# Altium footprint library RDEC71H226MWK1H03B.PcbLib: 1 footprints
Each footprint in its own frame and in the unit in brackets; x right, y up, seen from the top. Pads: shape width x height; smd on the part's side, far side on the other; paste and mask are expansions set on the pad; w line width, h text height; cw(c..) or ccw(c..) is an arc to the next point about the centre after c.
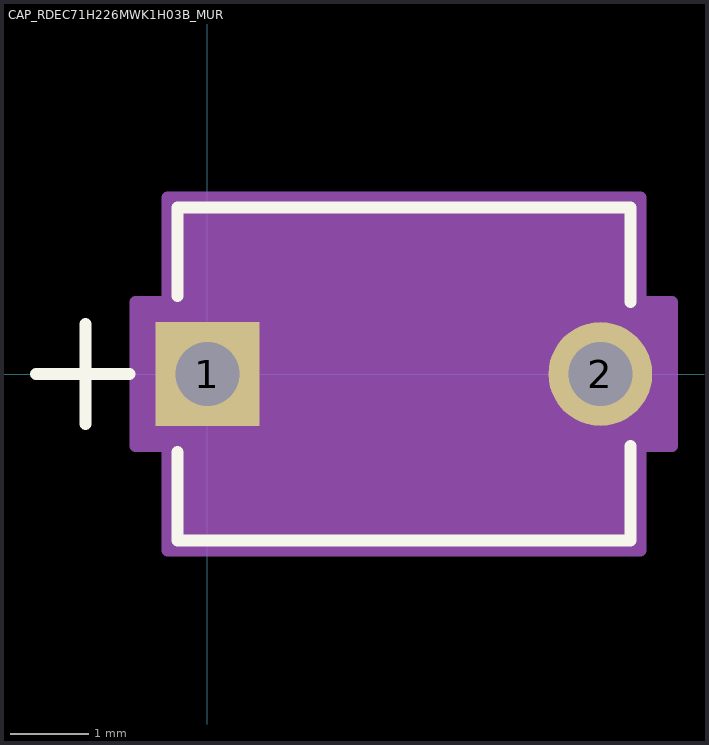
[diagram p0: the footprint, top view; thin cyan lines are the x and y axes]

## CAP_RDEC71H226MWK1H03B_MUR [mil]
pads (2):
  rect 52x52 hole 32 paste-26 mask+0: 1(0,0)
  round 52 hole 32 paste-26 mask+0: 2(196.85,0)
Top Overlay:
  lines w6: -86,0 -39.1,0 ; -61,-25 -61,25 ; -15.07,-39.1 -15.07,-83.5 211.93,-83.5 211.93,-36.08 ; -15.07,39.1 -15.07,83.5 211.93,83.5 211.93,36.08
  text ".Designator" at -39.07,-25 h50
Mechanical 13:
  lines w1: -86,0 -36,0 ; -61,-25 -61,25 ; -10.07,-78.5 206.93,-78.5 206.93,78.5 -10.07,78.5 -10.07,-78.5
  text ".Designator" at -39.07,-25 h50
Mechanical 15:
  region: -10.07,-36 -36,-36 -36,36 -10.07,36
  region: 206.93,-36 232.85,-36 232.85,36 206.93,36
  region: 206.93,-78.5 -10.07,-78.5 -10.07,78.5 206.93,78.5
  region: 216.93,-88.5 -20.07,-88.5 -20.07,88.5 216.93,88.5
  lines w6: -36,-36 -36,36 -20.07,36 -20.07,88.5 216.93,88.5 216.93,36 232.85,36 232.85,-36 216.93,-36 216.93,-88.5 -20.07,-88.5 -20.07,-36 -36,-36